# EAGLE library part MA730GQ-Z (library MA730GQ-Z)
Board Mount Hall Effect / Magnetic Sensors 14-bit, digital, contactless angle sensor with ABZ incremental and PWM output Source: Datasheet <https://www.monolithicpower.com/pub/media/document/m/a/ma730_r1.01.pdf>
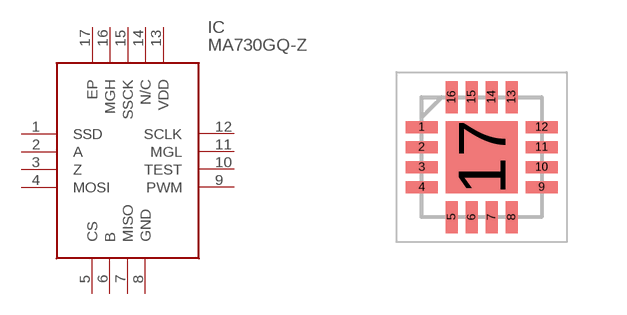
[diagram p0: symbol with the pads of QFN50P300X300X100-17N; footprint QFN50P300X300X100-17N]

Designator prefix IC

## MA730GQ-Z (Description: Board Mount Hall Effect / Magnetic Sensors 14-bit, digital, contactless angle sensor with ABZ incremental and PWM output; Height: 1mm; Manufacturer_Name: Monolithic Power Systems (MPS); Manufacturer_Part_Number: MA730GQ-Z; Mouser_Part_Number: 946-MA730GQ-Z; Mouser_Price-Stock: https://www.mouser.co.uk/ProductDetail/Monolithic-Power-Systems-MPS/MA730GQ-Z?qs=YCa%2FAAYMW01z3klrRj76PA%3D%3D)  [QFN50P300X300X100-17N]
1  SSD
2  A
3  Z
4  MOSI
5  CS
6  B
7  MISO
8  GND
9  PWM
10  TEST
11  MGL
12  SCLK
13  VDD
14  N/C  nc
15  SSCK
16  MGH
17  EP

## Footprint QFN50P300X300X100-17N (pad centres in mm)
MA730GQ-Z
smd 0.8 x 0.3: 1 -1.5,0.75; 2 -1.5,0.25; 3 -1.5,-0.25; 4 -1.5,-0.75; 9 1.5,-0.75; 10 1.5,-0.25; 11 1.5,0.25; 12 1.5,0.75
smd 0.3 x 0.8: 5 -0.75,-1.5; 6 -0.25,-1.5; 7 0.25,-1.5; 8 0.75,-1.5; 13 0.75,1.5; 14 0.25,1.5; 15 -0.25,1.5; 16 -0.75,1.5
smd 1.8 x 1.8: 17 0,0